# Altium footprint library MC33886VW.PcbLib: 1 footprints
Each footprint in its own frame and in the unit in brackets; x right, y up, seen from the top. Pads: shape width x height; smd on the part's side, far side on the other; paste and mask are expansions set on the pad; w line width, h text height; cw(c..) or ccw(c..) is an arc to the next point about the centre after c.
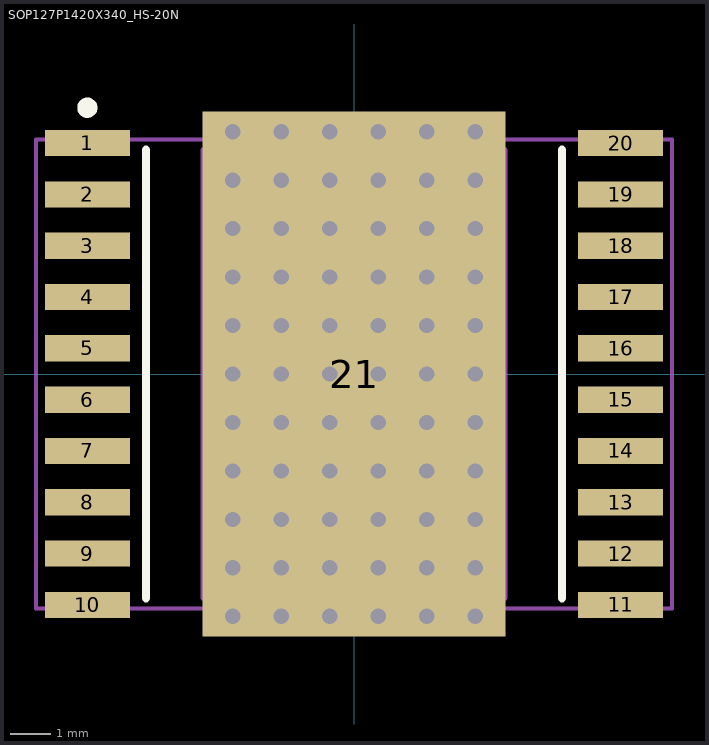
[diagram p0: the footprint, top view; thin cyan lines are the x and y axes]

## SOP127P1420X340_HS-20N [mm] "SOP, 20-Leads, Body 11.1x7.5mm (max), Pitch 1.27mm, IPC Medium Density"
height 3.4
pads (21):
  rect 2.1x0.65 smd: 1(-6.6,5.715) 2(-6.6,4.445) 3(-6.6,3.175) 4(-6.6,1.905) 5(-6.6,0.635) 6(-6.6,-0.635) 7(-6.6,-1.905) 8(-6.6,-3.175) 9(-6.6,-4.445) 10(-6.6,-5.715) 11(6.6,-5.715) 12(6.6,-4.445) 13(6.6,-3.175) 14(6.6,-1.905) 15(6.6,-0.635) 16(6.6,0.635) 17(6.6,1.905) 18(6.6,3.175) 19(6.6,4.445) 20(6.6,5.715)
  rect 7.5x13 smd: 21(0,0)
via -3,6 diameter 0.762 hole 0.381
via -1.8,6 diameter 0.762 hole 0.381
via -0.6,6 diameter 0.762 hole 0.381
via 0.6,6 diameter 0.762 hole 0.381
via 1.8,6 diameter 0.762 hole 0.381
via 3,6 diameter 0.762 hole 0.381
via -3,4.8 diameter 0.762 hole 0.381
via -1.8,4.8 diameter 0.762 hole 0.381
via -0.6,4.8 diameter 0.762 hole 0.381
via 0.6,4.8 diameter 0.762 hole 0.381
via 1.8,4.8 diameter 0.762 hole 0.381
via 3,4.8 diameter 0.762 hole 0.381
via -3,3.6 diameter 0.762 hole 0.381
via -1.8,3.6 diameter 0.762 hole 0.381
via -0.6,3.6 diameter 0.762 hole 0.381
via 0.6,3.6 diameter 0.762 hole 0.381
via 1.8,3.6 diameter 0.762 hole 0.381
via 3,3.6 diameter 0.762 hole 0.381
via -3,2.4 diameter 0.762 hole 0.381
via -1.8,2.4 diameter 0.762 hole 0.381
via -0.6,2.4 diameter 0.762 hole 0.381
via 0.6,2.4 diameter 0.762 hole 0.381
via 1.8,2.4 diameter 0.762 hole 0.381
via 3,2.4 diameter 0.762 hole 0.381
via -3,1.2 diameter 0.762 hole 0.381
via -1.8,1.2 diameter 0.762 hole 0.381
via -0.6,1.2 diameter 0.762 hole 0.381
via 0.6,1.2 diameter 0.762 hole 0.381
via 1.8,1.2 diameter 0.762 hole 0.381
via 3,1.2 diameter 0.762 hole 0.381
via -3,0 diameter 0.762 hole 0.381
via -1.8,0 diameter 0.762 hole 0.381
via -0.6,0 diameter 0.762 hole 0.381
via 0.6,0 diameter 0.762 hole 0.381
via 1.8,0 diameter 0.762 hole 0.381
via 3,0 diameter 0.762 hole 0.381
via -3,-1.2 diameter 0.762 hole 0.381
via -1.8,-1.2 diameter 0.762 hole 0.381
via -0.6,-1.2 diameter 0.762 hole 0.381
via 0.6,-1.2 diameter 0.762 hole 0.381
via 1.8,-1.2 diameter 0.762 hole 0.381
via 3,-1.2 diameter 0.762 hole 0.381
via -3,-2.4 diameter 0.762 hole 0.381
via -1.8,-2.4 diameter 0.762 hole 0.381
via -0.6,-2.4 diameter 0.762 hole 0.381
via 0.6,-2.4 diameter 0.762 hole 0.381
via 1.8,-2.4 diameter 0.762 hole 0.381
via 3,-2.4 diameter 0.762 hole 0.381
via -3,-3.6 diameter 0.762 hole 0.381
via -1.8,-3.6 diameter 0.762 hole 0.381
via -0.6,-3.6 diameter 0.762 hole 0.381
via 0.6,-3.6 diameter 0.762 hole 0.381
via 1.8,-3.6 diameter 0.762 hole 0.381
via 3,-3.6 diameter 0.762 hole 0.381
via -3,-4.8 diameter 0.762 hole 0.381
via -1.8,-4.8 diameter 0.762 hole 0.381
via -0.6,-4.8 diameter 0.762 hole 0.381
via 0.6,-4.8 diameter 0.762 hole 0.381
via 1.8,-4.8 diameter 0.762 hole 0.381
via 3,-4.8 diameter 0.762 hole 0.381
via -3,-6 diameter 0.762 hole 0.381
via -1.8,-6 diameter 0.762 hole 0.381
via -0.6,-6 diameter 0.762 hole 0.381
via 0.6,-6 diameter 0.762 hole 0.381
via 1.8,-6 diameter 0.762 hole 0.381
via 3,-6 diameter 0.762 hole 0.381
Top Overlay:
  circle w0.25: c-6.6,6.59 r0.125
  lines w0.2: -5.15,-5.55 -5.15,5.55 ; 5.15,-5.55 5.15,5.55
Mechanical 13:
  circle w0.1: c-2.8,4.6 r0.5
  lines w0.1: -3.75,-5.55 -3.75,5.55 3.75,5.55 3.75,-5.55 -3.75,-5.55
Mechanical 15:
  lines w0.1: -0.5,0 0.5,0 ; 0,-0.5 0,0.5 ; -7.875,-5.8 -7.875,5.8 7.875,5.8 7.875,-5.8 -7.875,-5.8
3D body: height 3.4, standoff 0.1, extent -3.75,-5.55 3.75,5.55